# Altium schematic symbol library Tactical_LED_Light.SchLib: 5 symbols
Pins are listed as number, name and electrical type; pins without a type are passive.

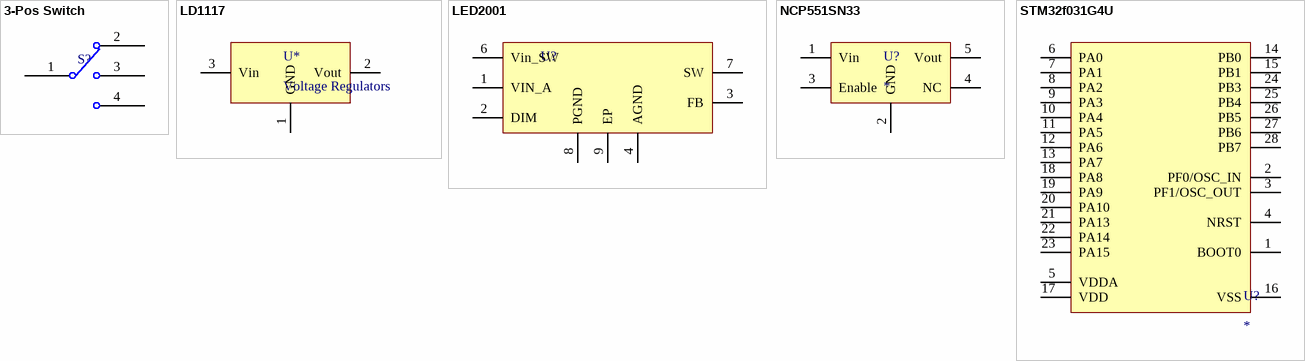
[diagram p0: symbols 3-Pos Switch to STM32f031G4U]

## 3-Pos Switch
designator S?  (value not drawn)
3 position switch
pins: 1, 2, 3, 4

## LD1117
designator U*, comment Voltage Regulators
pins: 1 GND, 2 Vout, 3 Vin

## LED2001
designator U?  (value not drawn)
LED Driver 4A
pins: 1 VIN_A, 2 DIM, 3 FB, 4 AGND, 6 Vin_SW, 7 SW, 8 PGND, 9 EP

## NCP551SN33
designator U?
pins: 1 Vin, 2 GND, 3 Enable, 4 NC, 5 Vout

## STM32f031G4U
designator U?
UFQFPN28
pins: 1 BOOT0, 2 PF0/OSC_IN, 3 PF1/OSC_OUT, 4 NRST, 5 VDDA, 6 PA0, 7 PA1, 8 PA2, 9 PA3, 10 PA4, 11 PA5, 12 PA6, 13 PA7, 14 PB0, 15 PB1, 16 VSS, 17 VDD, 18 PA8, 19 PA9, 20 PA10, 21 PA13, 22 PA14, 23 PA15, 24 PB3, 25 PB4, 26 PB5, 27 PB6, 28 PB7